# Altium footprint library MAX5711EUT&plus_T.PcbLib: 3 footprints
Each footprint in its own frame and in the unit in brackets; x right, y up, seen from the top. Pads: shape width x height; smd on the part's side, far side on the other; paste and mask are expansions set on the pad; w line width, h text height; cw(c..) or ccw(c..) is an arc to the next point about the centre after c.
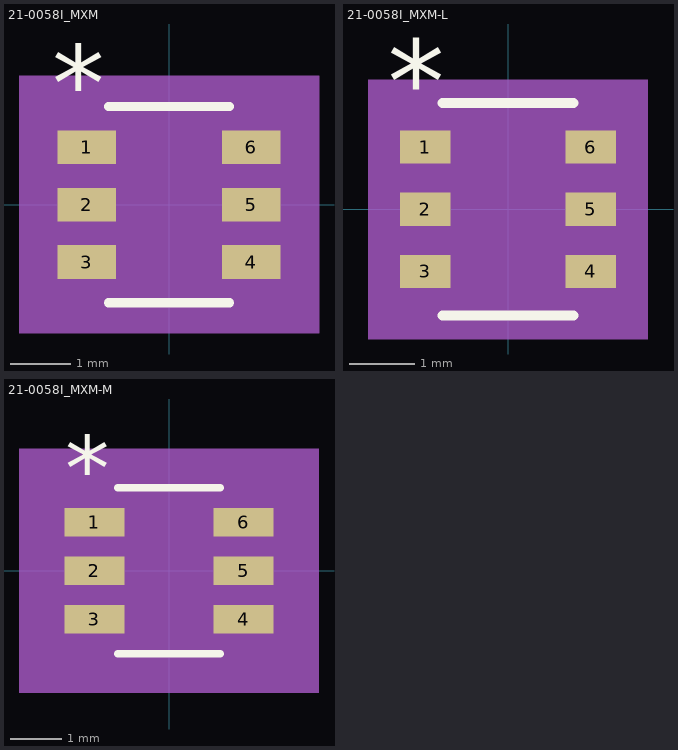
[diagram p0: the footprints below, top view; thin cyan lines are the x and y axes]

## 21-0058I_MXM [mm]
pads (6):
  rect 0.972x0.558 smd paste+0 mask+0: 1(-1.362,0.95) 2(-1.362,0) 3(-1.362,-0.95) 4(1.362,-0.95) 5(1.362,0) 6(1.362,0.95)
Top Overlay:
  lines w0.152: -1.003,-1.626 1.003,-1.626 ; -1.003,1.626 1.003,1.626
  text "*" at -1.934,1.381 h1.27
Mechanical 5:
  region: 2.484,-2.134 -2.484,-2.134 -2.484,2.134 2.484,2.134
Mechanical 13:
  lines w0: -0.305,1.499 ccw(c0,1.499) 0.305,1.499
  lines w0.025: -1.499,-1.204 -1.499,-0.696 -0.876,-0.696 -0.876,-1.204 -1.499,-1.204 ; -1.499,-0.254 -1.499,0.254 -0.876,0.254 -0.876,-0.254 -1.499,-0.254 ; -1.499,0.696 -1.499,1.204 -0.876,1.204 -0.876,0.696 -1.499,0.696 ; -0.876,-1.499 0.876,-1.499 0.876,1.499 -0.876,1.499 -0.876,-1.499 ; 0.876,-1.204 0.876,-0.696 1.499,-0.696 1.499,-1.204 0.876,-1.204 ; 0.876,-0.254 0.876,0.254 1.499,0.254 1.499,-0.254 0.876,-0.254 ; 0.876,0.696 0.876,1.204 1.499,1.204 1.499,0.696 0.876,0.696
  text "*" at -0.813,0.152 h1.27
Mechanical 15:
  region: -1.13,-1.483 -2.103,-1.483 -2.103,1.483 -1.13,1.483 -1.13,1.753 1.13,1.753 1.13,1.483 2.103,1.483 2.103,-1.483 1.13,-1.483 1.13,-1.753 -1.13,-1.753
  lines w0.152: -2.103,-1.483 -2.103,1.483 -1.13,1.483 -1.13,1.753 1.13,1.753 1.13,1.483 2.103,1.483 2.103,-1.483 1.13,-1.483 1.13,-1.753 -1.13,-1.753 -1.13,-1.483 -2.103,-1.483
3D body "21-0058I_MXM.step": height 1.45, standoff 0, extent -1.499,-1.499 1.499,1.499

## 21-0058I_MXM-L [mil]
pads (6):
  rect 30.41x20 smd paste+0 mask+0: 1(-49.7,37.4) 2(-49.7,0) 3(-49.7,-37.4) 4(49.7,-37.4) 5(49.7,0) 6(49.7,37.4)
Top Overlay:
  lines w6: -39.5,-64 39.5,-64 ; -39.5,64 39.5,64
  text "*" at -72.2,52.4 h50
Mechanical 5:
  region: 83.91,-78 -83.91,-78 -83.91,78 83.91,78
Mechanical 13:
  lines w0: -12,59 ccw(c0,59) 12,59
  lines w1: -59,-47.4 -59,-27.4 -34.5,-27.4 -34.5,-47.4 -59,-47.4 ; -59,-10 -59,10 -34.5,10 -34.5,-10 -59,-10 ; -59,27.4 -59,47.4 -34.5,47.4 -34.5,27.4 -59,27.4 ; -34.5,-59 34.5,-59 34.5,59 -34.5,59 -34.5,-59 ; 34.5,-47.4 34.5,-27.4 59,-27.4 59,-47.4 34.5,-47.4 ; 34.5,-10 34.5,10 59,10 59,-10 34.5,-10 ; 34.5,27.4 34.5,47.4 59,47.4 59,27.4 34.5,27.4
  text "*" at -32,6 h50
Mechanical 15:
  region: -38.5,-51.4 -68.91,-51.4 -68.91,51.4 -38.5,51.4 -38.5,63 38.5,63 38.5,51.4 68.91,51.4 68.91,-51.4 38.5,-51.4 38.5,-63 -38.5,-63
  lines w6: -68.91,-51.4 -68.91,51.4 -38.5,51.4 -38.5,63 38.5,63 38.5,51.4 68.91,51.4 68.91,-51.4 38.5,-51.4 38.5,-63 -38.5,-63 -38.5,-51.4 -68.91,-51.4
3D body "21-0058I_MXM.step": height 57.09, standoff 0, extent -59.02,-59.02 59.02,59.02

## 21-0058I_MXM-M [mm]
pads (6):
  rect 1.172x0.558 smd paste+0 mask+0: 1(-1.462,0.95) 2(-1.462,0) 3(-1.462,-0.95) 4(1.462,-0.95) 5(1.462,0) 6(1.462,0.95)
Top Overlay:
  lines w0.152: -1.003,-1.626 1.003,-1.626 ; -1.003,1.626 1.003,1.626
  text "*" at -2.034,1.381 h1.27
Mechanical 5:
  region: 2.938,-2.388 -2.938,-2.388 -2.938,2.388 2.938,2.388
Mechanical 13:
  lines w0: -0.305,1.499 ccw(c0,1.499) 0.305,1.499
  lines w0.025: -1.499,-1.204 -1.499,-0.696 -0.876,-0.696 -0.876,-1.204 -1.499,-1.204 ; -1.499,-0.254 -1.499,0.254 -0.876,0.254 -0.876,-0.254 -1.499,-0.254 ; -1.499,0.696 -1.499,1.204 -0.876,1.204 -0.876,0.696 -1.499,0.696 ; -0.876,-1.499 0.876,-1.499 0.876,1.499 -0.876,1.499 -0.876,-1.499 ; 0.876,-1.204 0.876,-0.696 1.499,-0.696 1.499,-1.204 0.876,-1.204 ; 0.876,-0.254 0.876,0.254 1.499,0.254 1.499,-0.254 0.876,-0.254 ; 0.876,0.696 0.876,1.204 1.499,1.204 1.499,0.696 0.876,0.696
  text "*" at -0.813,0.152 h1.27
Mechanical 15:
  region: -1.384,-1.737 -2.557,-1.737 -2.557,1.737 -1.384,1.737 -1.384,2.007 1.384,2.007 1.384,1.737 2.557,1.737 2.557,-1.737 1.384,-1.737 1.384,-2.007 -1.384,-2.007
  lines w0.152: -2.557,-1.737 -2.557,1.737 -1.384,1.737 -1.384,2.007 1.384,2.007 1.384,1.737 2.557,1.737 2.557,-1.737 1.384,-1.737 1.384,-2.007 -1.384,-2.007 -1.384,-1.737 -2.557,-1.737
3D body "21-0058I_MXM.step": height 1.45, standoff 0, extent -1.499,-1.499 1.499,1.499